# Altium schematic symbol library LimeMicroAltiumLib.SchLib: 659 symbols (part 14 of 22)
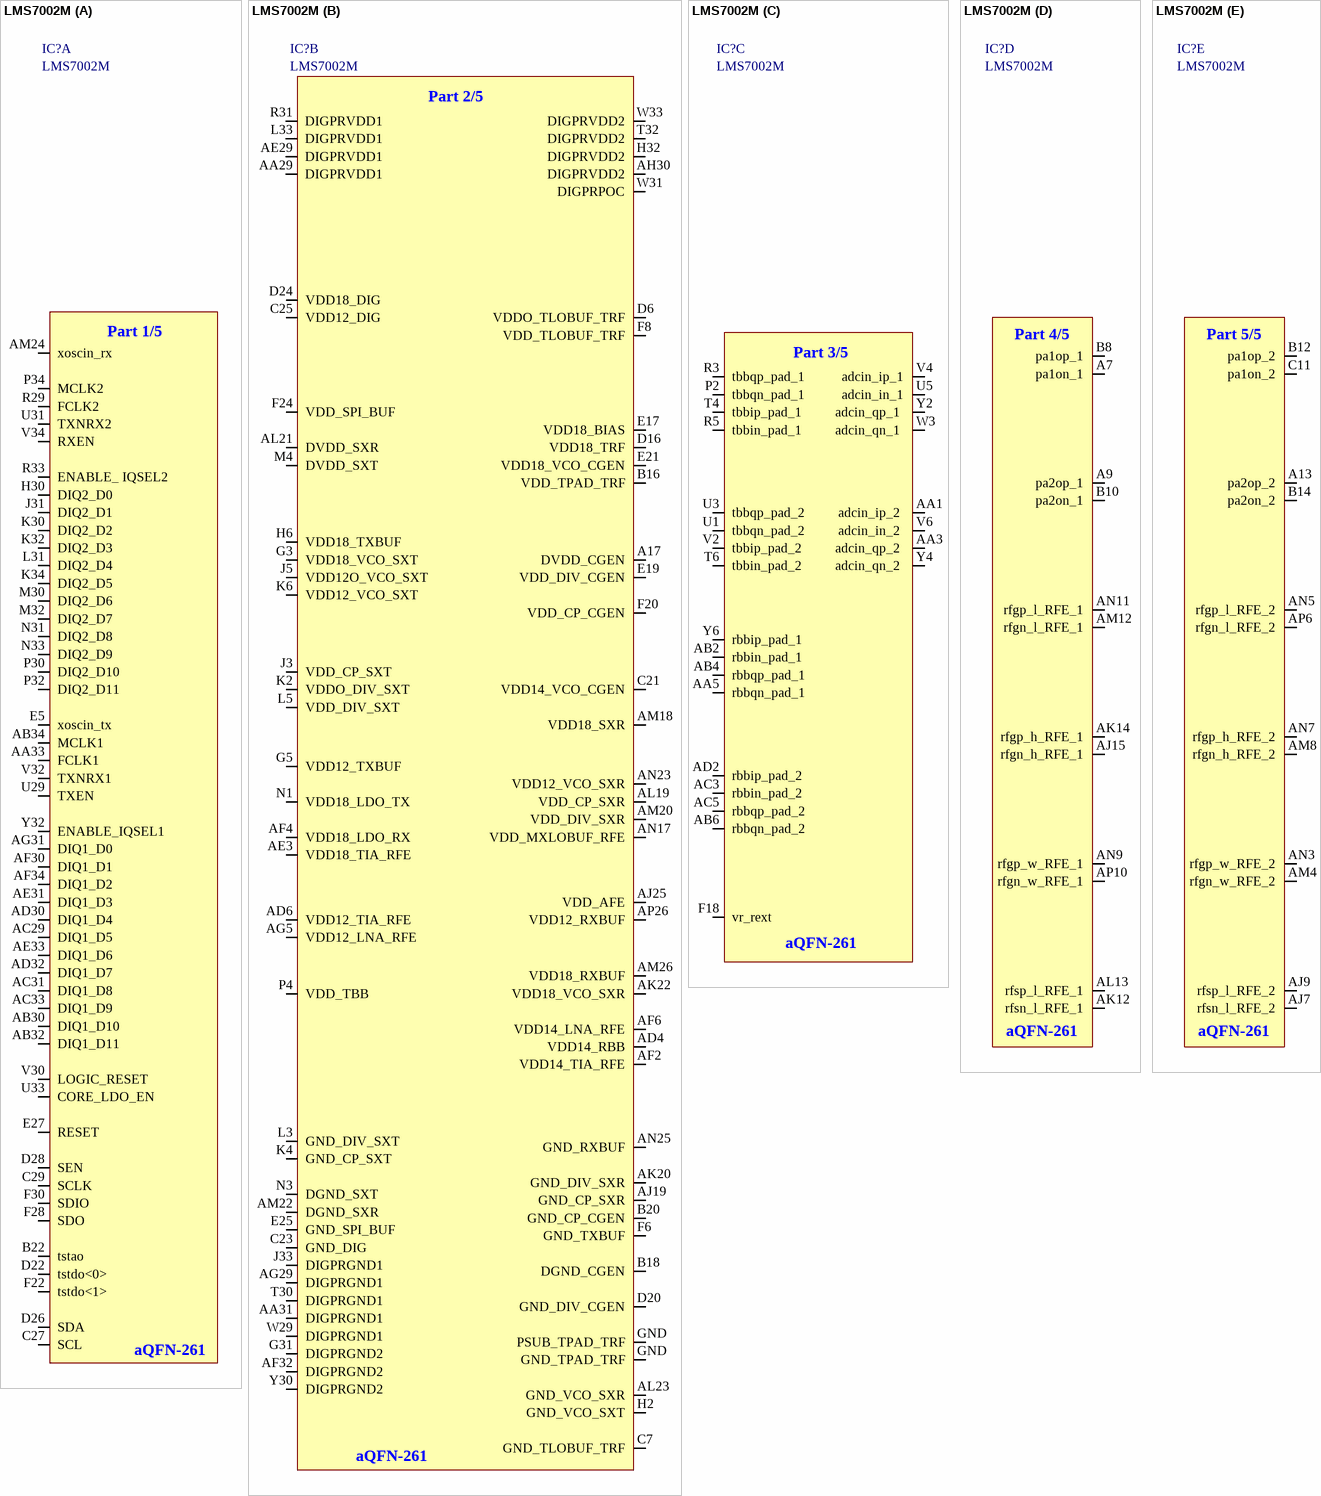
[diagram p91: symbol LMS7002M]

## LMS7002M
designator IC?
footprint LMS7002M
part A pins: AA33 FCLK1, AB30 DIQ1_D10, AB32 DIQ1_D11, AB34 MCLK1, AC29 DIQ1_D5, AC31 DIQ1_D8, AC33 DIQ1_D9, AD30 DIQ1_D4, AD32 DIQ1_D7, AE31 DIQ1_D3, AE33 DIQ1_D6, AF30 DIQ1_D1, AF34 DIQ1_D2, AG31 DIQ1_D0, AM24 xoscin_rx, B22 tstao, C27 SCL, C29 SCLK, D22 tstdo<0>, D26 SDA, D28 SEN, E5 xoscin_tx, E27 RESET, F22 tstdo<1>, F28 SDO, F30 SDIO, H30 DIQ2_D0, J31 DIQ2_D1, K30 DIQ2_D2, K32 DIQ2_D3, K34 DIQ2_D5, L31 DIQ2_D4, M30 DIQ2_D6, M32 DIQ2_D7, N31 DIQ2_D8, N33 DIQ2_D9, P30 DIQ2_D10, P32 DIQ2_D11, P34 MCLK2, R29 FCLK2, R33 ENABLE_ IQSEL2, U29 TXEN, U31 TXNRX2, U33 CORE_LDO_EN, V30 LOGIC_RESET, V32 TXNRX1, V34 RXEN, Y32 ENABLE_IQSEL1
part B pins: A17 DVDD_CGEN, AA29 DIGPRVDD1, AA31 DIGPRGND1, AD4 VDD14_RBB, AD6 VDD12_TIA_RFE, AE3 VDD18_TIA_RFE, AE29 DIGPRVDD1, AF2 VDD14_TIA_RFE, AF4 VDD18_LDO_RX, AF6 VDD14_LNA_RFE, AF32 DIGPRGND2, AG5 VDD12_LNA_RFE, AG29 DIGPRGND1, AH30 DIGPRVDD2, AJ19 GND_CP_SXR, AJ25 VDD_AFE, AK20 GND_DIV_SXR, AK22 VDD18_VCO_SXR, AL19 VDD_CP_SXR, AL21 DVDD_SXR, AL23 GND_VCO_SXR, AM18 VDD18_SXR, AM20 VDD_DIV_SXR, AM22 DGND_SXR, AM26 VDD18_RXBUF, AN17 VDD_MXLOBUF_RFE, AN23 VDD12_VCO_SXR, AN25 GND_RXBUF, AP26 VDD12_RXBUF, B16 VDD_TPAD_TRF, B18 DGND_CGEN, B20 GND_CP_CGEN, C7 GND_TLOBUF_TRF, C21 VDD14_VCO_CGEN, C23 GND_DIG, C25 VDD12_DIG, D6 VDDO_TLOBUF_TRF, D16 VDD18_TRF, D20 GND_DIV_CGEN, D24 VDD18_DIG, E17 VDD18_BIAS, E19 VDD_DIV_CGEN, E21 VDD18_VCO_CGEN, E25 GND_SPI_BUF, F6 GND_TXBUF, F8 VDD_TLOBUF_TRF, F20 VDD_CP_CGEN, F24 VDD_SPI_BUF, G3 VDD18_VCO_SXT, G5 VDD12_TXBUF, G31 DIGPRGND2, GND PSUB_TPAD_TRF, GND GND_TPAD_TRF, H2 GND_VCO_SXT, H6 VDD18_TXBUF, H32 DIGPRVDD2, J3 VDD_CP_SXT, J5 VDD12O_VCO_SXT, J33 DIGPRGND1, K2 VDDO_DIV_SXT, K4 GND_CP_SXT, K6 VDD12_VCO_SXT, L3 GND_DIV_SXT, L5 VDD_DIV_SXT, L33 DIGPRVDD1, M4 DVDD_SXT, N1 VDD18_LDO_TX, N3 DGND_SXT, P4 VDD_TBB, R31 DIGPRVDD1, T30 DIGPRGND1, T32 DIGPRVDD2, W29 DIGPRGND1, W31 DIGPRPOC, W33 DIGPRVDD2, Y30 DIGPRGND2
part C pins: AA1 adcin_ip_2 , AA3 adcin_qp_2 , AA5 rbbqn_pad_1 , AB2 rbbin_pad_1, AB4 rbbqp_pad_1, AB6 rbbqn_pad_2 , AC3 rbbin_pad_2, AC5 rbbqp_pad_2 , AD2 rbbip_pad_2 , F18 vr_rext, P2 tbbqn_pad_1, R3 tbbqp_pad_1, R5 tbbin_pad_1, T4 tbbip_pad_1, T6 tbbin_pad_2, U1 tbbqn_pad_2, U3 tbbqp_pad_2, U5 adcin_in_1, V2 tbbip_pad_2, V4 adcin_ip_1, V6 adcin_in_2 , W3 adcin_qn_1 , Y2 adcin_qp_1 , Y4 adcin_qn_2 , Y6 rbbip_pad_1 
part D pins: A7 pa1on_1, A9 pa2op_1, AJ15 rfgn_h_RFE_1, AK12 rfsn_l_RFE_1, AK14 rfgp_h_RFE_1, AL13 rfsp_l_RFE_1, AM12 rfgn_l_RFE_1, AN9 rfgp_w_RFE_1, AN11 rfgp_l_RFE_1, AP10 rfgn_w_RFE_1, B8 pa1op_1, B10 pa2on_1
part E pins: A13 pa2op_2, AJ7 rfsn_l_RFE_2, AJ9 rfsp_l_RFE_2, AM4 rfgn_w_RFE_2, AM8 rfgn_h_RFE_2, AN3 rfgp_w_RFE_2, AN5 rfgp_l_RFE_2, AN7 rfgp_h_RFE_2, AP6 rfgn_l_RFE_2, B12 pa1op_2, B14 pa2on_2, C11 pa1on_2
part A text: Part 1/5; aQFN-261
part B text: Part 2/5; aQFN-261
part C text: Part 3/5; aQFN-261
part D text: Part 4/5; aQFN-261
part E text: Part 5/5; aQFN-261

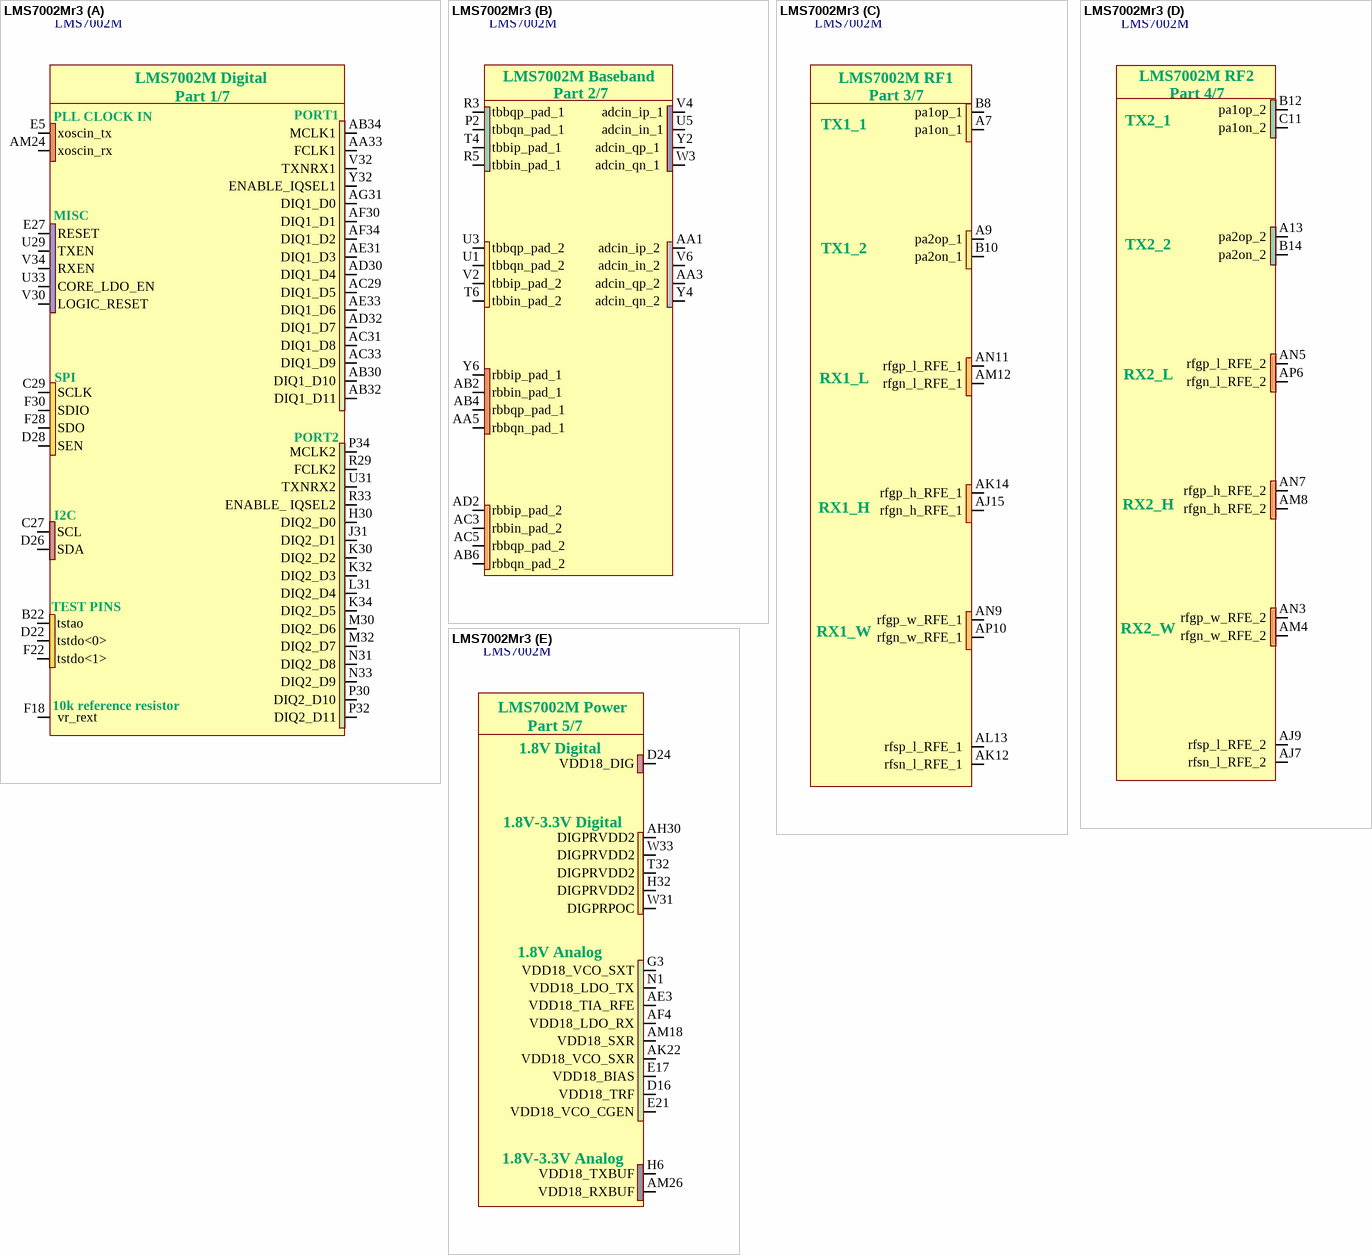
[diagram p56: symbol LMS7002Mr3]

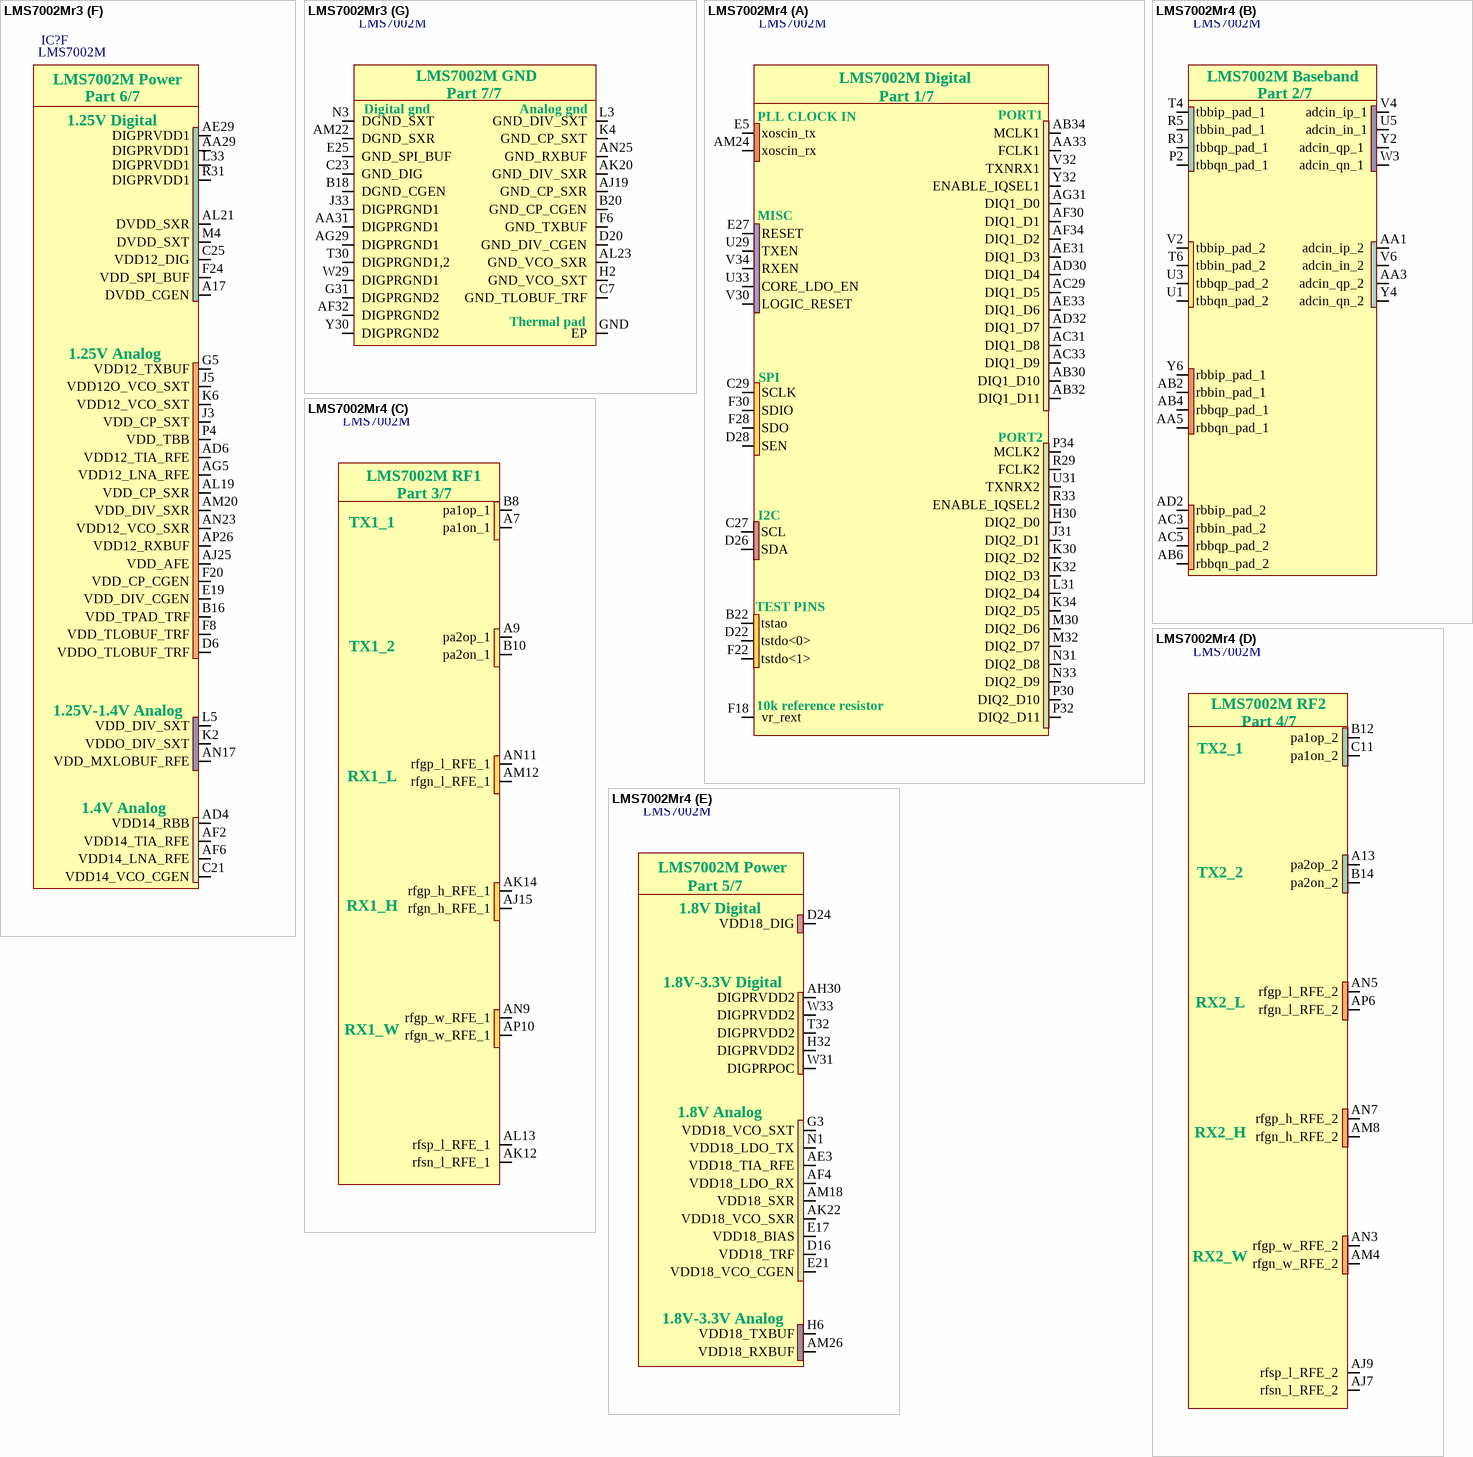
[diagram p57: symbols LMS7002Mr3 to LMS7002Mr4]

## LMS7002Mr3
designator IC?, comment LMS7002M
Schematic symbol revision 3. Default footprint - 0.31mm pad; Manufacturer: Lime Microsystems; Part Description: IC FPRF Transceiver LMS7002M; 261 pin aQFN; Supplier 1: Lime Microsystems; Supplier Part Number 1: LMS7002M; Manufacturer Part Number 1: LMS7002M
footprint LMS7002M_v3 (LMS7002 without AM2 pad (internally unconnected). Pad size reduced to 0.31mm from 0.35)
part A pins: AA33 FCLK1, AB30 DIQ1_D10, AB32 DIQ1_D11, AB34 MCLK1, AC29 DIQ1_D5, AC31 DIQ1_D8, AC33 DIQ1_D9, AD30 DIQ1_D4, AD32 DIQ1_D7, AE31 DIQ1_D3, AE33 DIQ1_D6, AF30 DIQ1_D1, AF34 DIQ1_D2, AG31 DIQ1_D0, AM24 xoscin_rx, B22 tstao, C27 SCL, C29 SCLK, D22 tstdo<0>, D26 SDA, D28 SEN, E5 xoscin_tx, E27 RESET, F18 vr_rext, F22 tstdo<1>, F28 SDO, F30 SDIO, H30 DIQ2_D0, J31 DIQ2_D1, K30 DIQ2_D2, K32 DIQ2_D3, K34 DIQ2_D5, L31 DIQ2_D4, M30 DIQ2_D6, M32 DIQ2_D7, N31 DIQ2_D8, N33 DIQ2_D9, P30 DIQ2_D10, P32 DIQ2_D11, P34 MCLK2, R29 FCLK2, R33 ENABLE_ IQSEL2, U29 TXEN, U31 TXNRX2, U33 CORE_LDO_EN, V30 LOGIC_RESET, V32 TXNRX1, V34 RXEN, Y32 ENABLE_IQSEL1
part B pins: AA1 adcin_ip_2 , AA3 adcin_qp_2 , AA5 rbbqn_pad_1 , AB2 rbbin_pad_1, AB4 rbbqp_pad_1, AB6 rbbqn_pad_2 , AC3 rbbin_pad_2, AC5 rbbqp_pad_2 , AD2 rbbip_pad_2 , P2 tbbqn_pad_1, R3 tbbqp_pad_1, R5 tbbin_pad_1, T4 tbbip_pad_1, T6 tbbin_pad_2, U1 tbbqn_pad_2, U3 tbbqp_pad_2, U5 adcin_in_1, V2 tbbip_pad_2, V4 adcin_ip_1, V6 adcin_in_2 , W3 adcin_qn_1 , Y2 adcin_qp_1 , Y4 adcin_qn_2 , Y6 rbbip_pad_1 
part C pins: A7 pa1on_1, A9 pa2op_1, AJ15 rfgn_h_RFE_1, AK12 rfsn_l_RFE_1, AK14 rfgp_h_RFE_1, AL13 rfsp_l_RFE_1, AM12 rfgn_l_RFE_1, AN9 rfgp_w_RFE_1, AN11 rfgp_l_RFE_1, AP10 rfgn_w_RFE_1, B8 pa1op_1, B10 pa2on_1
part D pins: A13 pa2op_2, AJ7 rfsn_l_RFE_2, AJ9 rfsp_l_RFE_2, AM4 rfgn_w_RFE_2, AM8 rfgn_h_RFE_2, AN3 rfgp_w_RFE_2, AN5 rfgp_l_RFE_2, AN7 rfgp_h_RFE_2, AP6 rfgn_l_RFE_2, B12 pa1op_2, B14 pa2on_2, C11 pa1on_2
part E pins: AE3 VDD18_TIA_RFE (power), AF4 VDD18_LDO_RX (power), AH30 DIGPRVDD2 (power), AK22 VDD18_VCO_SXR (power), AM18 VDD18_SXR (power), AM26 VDD18_RXBUF (power), D16 VDD18_TRF (power), D24 VDD18_DIG (power), E17 VDD18_BIAS (power), E21 VDD18_VCO_CGEN (power), G3 VDD18_VCO_SXT (power), H6 VDD18_TXBUF (power), H32 DIGPRVDD2 (power), N1 VDD18_LDO_TX (power), T32 DIGPRVDD2 (power), W31 DIGPRPOC (power), W33 DIGPRVDD2 (power)
part F pins: A17 DVDD_CGEN (power), AA29 DIGPRVDD1 (power), AD4 VDD14_RBB (power), AD6 VDD12_TIA_RFE (power), AE29 DIGPRVDD1 (power), AF2 VDD14_TIA_RFE (power), AF6 VDD14_LNA_RFE (power), AG5 VDD12_LNA_RFE (power), AJ25 VDD_AFE (power), AL19 VDD_CP_SXR (power), AL21 DVDD_SXR (power), AM20 VDD_DIV_SXR (power), AN17 VDD_MXLOBUF_RFE (power), AN23 VDD12_VCO_SXR (power), AP26 VDD12_RXBUF (power), B16 VDD_TPAD_TRF (power), C21 VDD14_VCO_CGEN (power), C25 VDD12_DIG (power), D6 VDDO_TLOBUF_TRF (power), E19 VDD_DIV_CGEN (power), F8 VDD_TLOBUF_TRF (power), F20 VDD_CP_CGEN (power), F24 VDD_SPI_BUF (power), G5 VDD12_TXBUF (power), J3 VDD_CP_SXT (power), J5 VDD12O_VCO_SXT (power), K2 VDDO_DIV_SXT (power), K6 VDD12_VCO_SXT (power), L5 VDD_DIV_SXT (power), L33 DIGPRVDD1 (power), M4 DVDD_SXT (power), P4 VDD_TBB (power), R31 DIGPRVDD1 (power)
part G pins: AA31 DIGPRGND1, AF32 DIGPRGND2, AG29 DIGPRGND1, AJ19 GND_CP_SXR, AK20 GND_DIV_SXR, AL23 GND_VCO_SXR, AM22 DGND_SXR, AN25 GND_RXBUF, B18 DGND_CGEN, B20 GND_CP_CGEN, C7 GND_TLOBUF_TRF, C23 GND_DIG, D20 GND_DIV_CGEN, E25 GND_SPI_BUF, F6 GND_TXBUF, G31 DIGPRGND2, GND EP, H2 GND_VCO_SXT, J33 DIGPRGND1, K4 GND_CP_SXT, L3 GND_DIV_SXT, N3 DGND_SXT, T30 DIGPRGND1,2, W29 DIGPRGND1, Y30 DIGPRGND2
part A text: LMS7002M Digital; Part 1/7; PLL CLOCK IN; PORT1; MISC; SPI; PORT2; I2C; TEST PINS; 10k reference resistor
part B text: LMS7002M Baseband; Part 2/7
part C text: LMS7002M RF1; Part 3/7; TX1_1; TX1_2; RX1_L; RX1_H; RX1_W
part D text: LMS7002M RF2; Part 4/7; TX2_1; TX2_2; RX2_L; RX2_H; RX2_W
part E text: LMS7002M Power; Part 5/7; 1.8V Digital; 1.8V-3.3V Digital; 1.8V Analog; 1.8V-3.3V Analog
part F text: LMS7002M Power; Part 6/7; 1.25V Digital; 1.25V Analog; 1.25V-1.4V Analog; 1.4V Analog
part G text: LMS7002M GND; Part 7/7; Digital gnd; Analog gnd; Thermal pad

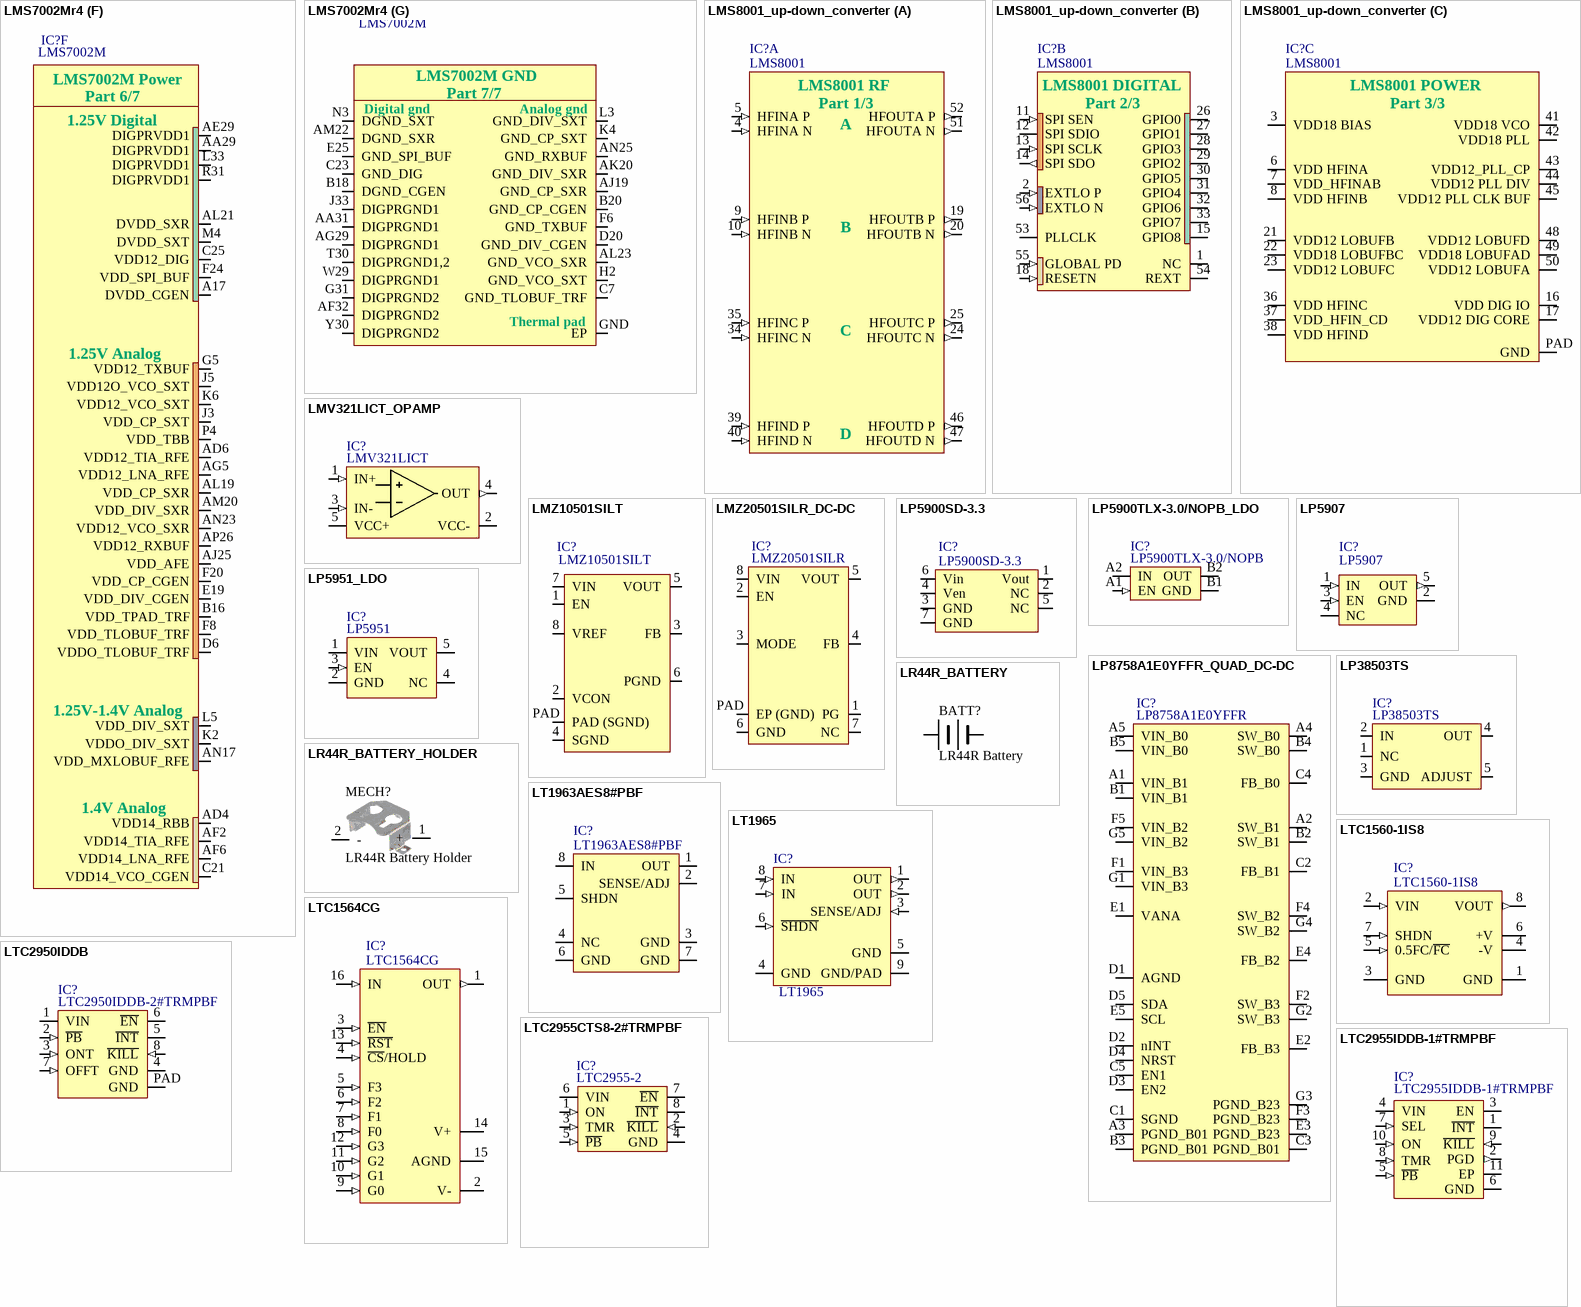
[diagram p58: symbols LMS7002Mr4 to LTC2955IDDB-1#TRMPBF]

## LMS7002Mr4
designator IC?, comment LMS7002M
Schematic symbol revision 4. Default footprint - 0.31mm pad; Manufacturer: Lime Microsystems; Part Description: IC FPRF Transceiver LMS7002M; 261 pin aQFN; Supplier 1: Lime Microsystems; Supplier Part Number 1: LMS7002M; Manufacturer Part Number 1: LMS7002M
footprint LMS7002M_v3 (LMS7002 without AM2 pad (internally unconnected). Pad size reduced to 0.31mm from 0.35)
part A pins: AA33 FCLK1, AB30 DIQ1_D10, AB32 DIQ1_D11, AB34 MCLK1, AC29 DIQ1_D5, AC31 DIQ1_D8, AC33 DIQ1_D9, AD30 DIQ1_D4, AD32 DIQ1_D7, AE31 DIQ1_D3, AE33 DIQ1_D6, AF30 DIQ1_D1, AF34 DIQ1_D2, AG31 DIQ1_D0, AM24 xoscin_rx, B22 tstao, C27 SCL, C29 SCLK, D22 tstdo<0>, D26 SDA, D28 SEN, E5 xoscin_tx, E27 RESET, F18 vr_rext, F22 tstdo<1>, F28 SDO, F30 SDIO, H30 DIQ2_D0, J31 DIQ2_D1, K30 DIQ2_D2, K32 DIQ2_D3, K34 DIQ2_D5, L31 DIQ2_D4, M30 DIQ2_D6, M32 DIQ2_D7, N31 DIQ2_D8, N33 DIQ2_D9, P30 DIQ2_D10, P32 DIQ2_D11, P34 MCLK2, R29 FCLK2, R33 ENABLE_IQSEL2, U29 TXEN, U31 TXNRX2, U33 CORE_LDO_EN, V30 LOGIC_RESET, V32 TXNRX1, V34 RXEN, Y32 ENABLE_IQSEL1
part B pins: AA1 adcin_ip_2 , AA3 adcin_qp_2 , AA5 rbbqn_pad_1 , AB2 rbbin_pad_1, AB4 rbbqp_pad_1, AB6 rbbqn_pad_2 , AC3 rbbin_pad_2, AC5 rbbqp_pad_2 , AD2 rbbip_pad_2 , P2 tbbqn_pad_1, R3 tbbqp_pad_1, R5 tbbin_pad_1, T4 tbbip_pad_1, T6 tbbin_pad_2, U1 tbbqn_pad_2, U3 tbbqp_pad_2, U5 adcin_in_1, V2 tbbip_pad_2, V4 adcin_ip_1, V6 adcin_in_2 , W3 adcin_qn_1 , Y2 adcin_qp_1 , Y4 adcin_qn_2 , Y6 rbbip_pad_1 
part C pins: A7 pa1on_1, A9 pa2op_1, AJ15 rfgn_h_RFE_1, AK12 rfsn_l_RFE_1, AK14 rfgp_h_RFE_1, AL13 rfsp_l_RFE_1, AM12 rfgn_l_RFE_1, AN9 rfgp_w_RFE_1, AN11 rfgp_l_RFE_1, AP10 rfgn_w_RFE_1, B8 pa1op_1, B10 pa2on_1
part D pins: A13 pa2op_2, AJ7 rfsn_l_RFE_2, AJ9 rfsp_l_RFE_2, AM4 rfgn_w_RFE_2, AM8 rfgn_h_RFE_2, AN3 rfgp_w_RFE_2, AN5 rfgp_l_RFE_2, AN7 rfgp_h_RFE_2, AP6 rfgn_l_RFE_2, B12 pa1op_2, B14 pa2on_2, C11 pa1on_2
part E pins: AE3 VDD18_TIA_RFE (power), AF4 VDD18_LDO_RX (power), AH30 DIGPRVDD2 (power), AK22 VDD18_VCO_SXR (power), AM18 VDD18_SXR (power), AM26 VDD18_RXBUF (power), D16 VDD18_TRF (power), D24 VDD18_DIG (power), E17 VDD18_BIAS (power), E21 VDD18_VCO_CGEN (power), G3 VDD18_VCO_SXT (power), H6 VDD18_TXBUF (power), H32 DIGPRVDD2 (power), N1 VDD18_LDO_TX (power), T32 DIGPRVDD2 (power), W31 DIGPRPOC (power), W33 DIGPRVDD2 (power)
part F pins: A17 DVDD_CGEN (power), AA29 DIGPRVDD1 (power), AD4 VDD14_RBB (power), AD6 VDD12_TIA_RFE (power), AE29 DIGPRVDD1 (power), AF2 VDD14_TIA_RFE (power), AF6 VDD14_LNA_RFE (power), AG5 VDD12_LNA_RFE (power), AJ25 VDD_AFE (power), AL19 VDD_CP_SXR (power), AL21 DVDD_SXR (power), AM20 VDD_DIV_SXR (power), AN17 VDD_MXLOBUF_RFE (power), AN23 VDD12_VCO_SXR (power), AP26 VDD12_RXBUF (power), B16 VDD_TPAD_TRF (power), C21 VDD14_VCO_CGEN (power), C25 VDD12_DIG (power), D6 VDDO_TLOBUF_TRF (power), E19 VDD_DIV_CGEN (power), F8 VDD_TLOBUF_TRF (power), F20 VDD_CP_CGEN (power), F24 VDD_SPI_BUF (power), G5 VDD12_TXBUF (power), J3 VDD_CP_SXT (power), J5 VDD12O_VCO_SXT (power), K2 VDDO_DIV_SXT (power), K6 VDD12_VCO_SXT (power), L5 VDD_DIV_SXT (power), L33 DIGPRVDD1 (power), M4 DVDD_SXT (power), P4 VDD_TBB (power), R31 DIGPRVDD1 (power)
part G pins: AA31 DIGPRGND1, AF32 DIGPRGND2, AG29 DIGPRGND1, AJ19 GND_CP_SXR, AK20 GND_DIV_SXR, AL23 GND_VCO_SXR, AM22 DGND_SXR, AN25 GND_RXBUF, B18 DGND_CGEN, B20 GND_CP_CGEN, C7 GND_TLOBUF_TRF, C23 GND_DIG, D20 GND_DIV_CGEN, E25 GND_SPI_BUF, F6 GND_TXBUF, G31 DIGPRGND2, GND EP, H2 GND_VCO_SXT, J33 DIGPRGND1, K4 GND_CP_SXT, L3 GND_DIV_SXT, N3 DGND_SXT, T30 DIGPRGND1,2, W29 DIGPRGND1, Y30 DIGPRGND2
part A text: LMS7002M Digital; Part 1/7; PLL CLOCK IN; PORT1; MISC; SPI; PORT2; I2C; TEST PINS; 10k reference resistor
part B text: LMS7002M Baseband; Part 2/7
part C text: LMS7002M RF1; Part 3/7; TX1_1; TX1_2; RX1_L; RX1_H; RX1_W
part D text: LMS7002M RF2; Part 4/7; TX2_1; TX2_2; RX2_L; RX2_H; RX2_W
part E text: LMS7002M Power; Part 5/7; 1.8V Digital; 1.8V-3.3V Digital; 1.8V Analog; 1.8V-3.3V Analog
part F text: LMS7002M Power; Part 6/7; 1.25V Digital; 1.25V Analog; 1.25V-1.4V Analog; 1.4V Analog
part G text: LMS7002M GND; Part 7/7; Digital gnd; Analog gnd; Thermal pad

## LMS8001_up-down_converter
designator IC?, comment LMS8001
Part Description: Single chip up/down RF frequency shifter; Manufacturer: Lime Microsystems; Supplier 1: Lime Microsystems; Manufacturer Part Number 1: LMS8001; Supplier Part Number 8: LMS8001
footprint LMS8001_up-down_converter_QFN56
part A pins: 4 HFINA N (in), 5 HFINA P (in), 9 HFINB P (in), 10 HFINB N (in), 19 HFOUTB P (out), 20 HFOUTB N (out), 24 HFOUTC N (out), 25 HFOUTC P (out), 34 HFINC N (in), 35 HFINC P (in), 39 HFIND P (in), 40 HFIND N (in), 46 HFOUTD P (out), 47 HFOUTD N (out), 51 HFOUTA N (out), 52 HFOUTA P (out)
part B pins: 1 NC, 2 EXTLO P (in), 11 SPI SEN (in), 12 SPI SDIO (io), 13 SPI SCLK (in), 14 SPI SDO (out), 15 GPIO8 (io), 18 RESETN (in), 26 GPIO0 (io), 27 GPIO1 (io), 28 GPIO3 (io), 29 GPIO2 (io), 30 GPIO5 (io), 31 GPIO4 (io), 32 GPIO6 (io), 33 GPIO7 (io), 53 PLLCLK, 54 REXT, 55 GLOBAL PD (in), 56 EXTLO N (in)
part C pins: 3 VDD18 BIAS, 6 VDD HFINA, 7 VDD_HFINAB, 8 VDD HFINB, 16 VDD DIG IO, 17 VDD12 DIG CORE, 21 VDD12 LOBUFB, 22 VDD18 LOBUFBC, 23 VDD12 LOBUFC, 36 VDD HFINC, 37 VDD_HFIN_CD, 38 VDD HFIND, 41 VDD18 VCO, 42 VDD18 PLL, 43 VDD12_PLL_CP, 44 VDD12 PLL DIV, 45 VDD12 PLL CLK BUF, 48 VDD12 LOBUFD, 49 VDD18 LOBUFAD, 50 VDD12 LOBUFA, PAD GND
part A text: LMS8001 RF; Part 1/3; A; B; C; D
part B text: LMS8001 DIGITAL; Part 2/3
part C text: LMS8001 POWER; Part 3/3

## LMV321LICT_OPAMP
designator IC?, comment LMV321LICT
Part Description: General Purpose Amplifier 1 Circuit Rail-to-Rail SC-70-5; Manufacturer: STMicroelectronics; Min Supply Voltage: 2.7V; Max Supply Voltage: 5.5V; Voltage Gain: 100dB; Slew Rate: 0.7V/µs; Unity Gain Bandwidth Product: 1.3MHz; Common Mode Rejection Ratio: 72dB; Number of Channels: 1; Output Current: 46mA; Nominal Supply Current: 220uA; Input Bias Current: 27nA; Input Offset Voltage (Vos): 1mV; Operating Supply Current: 130uA; Output Current per Channel: 70mA; Amplifier Type: GENERAL PURPOSE; Supplier 1: Digi-Key; Supplier Part Number 1: 497-13050-1-ND; Manufacturer Part Number 1: LMV321LICT; Stock 1: 43144; Pricing 1: 1=0,42000, 10=0,36300, 25=0,33880, 100=0,25160, 250=0,21292, 500=0,20324, 1000=0,18260 (USD); RoHS: Yes; Mount: Surface Mount; Case/Package: SC; Number of Pins: 5; Contact Plating: Tin; Min Operating Temperature: -40°C; Max Operating Temperature: 125°C; Package Quantity: 1; Packaging: Tape and Reel; Number of Circuits: 1; Gain Bandwidth Product: 1.3MHz; Number of Elements: 1; Series: -; Supply Current: 220uA; Input Offset Voltage-Max: 1mV; Slew Rate-Nom: 0.7V/µs; Radiation Hardening: No; Lead Free: Lead Free; RoHS Compliant: Yes; ComponentLink1URL: https://datasheet.ciiva.com/13063/dm00052423-100852-13063497.pdf?src-supplier=Mouser; ComponentLink1Description: https://datasheet.ciiva.com/13063/dm00052423-100852-13063497.pdf?src-supplier=Mouser; ComponentLink2URL: https://datasheet.ciiva.com/41459/001184777-da-01-en-ic-op-amp-sgl-r-r-lmv321lict-sc-70-5-stm-41459586.pdf?src-supplier=Conrad; ComponentLink2Description: https://datasheet.ciiva.com/41459/001184777-da-01-en-ic-op-amp-sgl-r-r-lmv321lict-sc-70-5-stm-41459586.pdf?src-supplier=Conrad; ComponentLink3URL: https://datasheet.ciiva.com/6629/dm00052423-6629957.pdf?src-supplier=Digi-Key; ComponentLink3Description: https://datasheet.ciiva.com/6629/dm00052423-6629957.pdf?src-supplier=Digi-Key; ComponentLink4URL: https://datasheet.ciiva.com/6629/dm00052423-6629958.pdf?src-supplier=Digi-Key; ComponentLink4Description: https://datasheet.ciiva.com/6629/dm00052423-6629958.pdf?src-supplier=Digi-Key; ComponentLink5URL: https://datasheet.ciiva.com/16394/dm00052423-16394346.pdf?src-supplier=Future+Electronics; ComponentLink5Description: https://datasheet.ciiva.com/16394/dm00052423-16394346.pdf?src-supplier=Future+Electronics; ComponentLink6URL: https://datasheet.ciiva.com/2966/dm00052423-2966011.pdf?src-supplier=Avnet; ComponentLink6Description: https://datasheet.ciiva.com/2966/dm00052423-2966011.pdf?src-supplier=Avnet
footprint SC-70-5_LMV321LICT_OPAMP (Footprint not found)
pins: 1 IN+ (in), 2 VCC-, 3 IN- (in), 4 OUT (out), 5 VCC+ (power)

## LMZ10501SILT
designator IC?
Manufacturer: Texas Instruments; Current - Output (Max): 1A; Voltage - Output 1: 0.6 ~ 3.6 V; Voltage - Input (Min): 2.7V; Number of Outputs: 1; Efficiency: 95%; Voltage - Input (Max): 5.5V; Supplier 1: Digi-Key; Package / Case: 8-LLP; Voltage - Output 2: -; Voltage - Output 3: -; Operating Temperature: -40°C ~ 125°C; Mounting Type: Surface Mount; Applications: ITE (Commercial); Size / Dimension: 0.12" L x 0.10" W x 0.06" H (3.0mm x 2.6mm x 1.5mm); Type: Non-Isolated PoL Module; Power (Watts) - Max: -; Voltage - Isolation: -; Features: OCP, OTP, SCP, UVLO; RoHS: RoHS Compliant; Packaging: Digi-Reel®; Power (Watts) - Manufacture Series: -; Category: Power Supplies - Board Mount; Manufacturer Part Number 1: LMZ10501SILT; Supplier Part Number 1: 296-37266-6-ND
footprint RAKON_RTX5032A (RAKON RTX5032A 40MHz Filter enabled, with VC, 10pin 5mm x 3.2mm)
pins: 1 EN, 2 VCON, 3 FB, 4 SGND, 5 VOUT, 6 PGND, 7 VIN, 8 VREF, PAD PAD (SGND)

## LMZ20501SILR_DC-DC
designator IC?, comment LMZ20501SILR
Manufacturer: Texas Instruments; Part Description: Non-Isolated PoL Module DC DC Converter 1 Output 0.8 ~ 3.6V 1A 2.7V - 5.5V Input; Number of Outputs: 1; Min Input Voltage: 2.7V; Max Input Voltage: 5.5V; Voltage - Output 1: 3.6V; Max Output Current: 1A; Efficiency: 93%; Max Power Dissipation: 4W; Quiescent Current: 72nA; Switching Frequency: 3MHz; Output Type: Adjustable; Supplier 1: Digi-Key; Supplier Part Number 1: 296-40328-1-ND; Manufacturer Part Number 1: LMZ20501SILR; Stock 1: 8106; Pricing 1: 1=4,48000, 10=4,02000, 25=3,80040, 100=3,29350, 250=3,12464, 500=2,80372, 1000=2,54942 (USD); RoHS: Yes; Mount: Surface Mount; Case/Package: SMD/SMT; Number of Pins: 8; Min Operating Temperature: -40°C; Max Operating Temperature: 125°C; Packaging: Tape and Reel; Output Voltage: 3.6V; Package Quantity: 3000; Features: UVLO,OCP,OTP,SCP; Operating Supply Voltage: 5.5V; Length: 0.14inch; Width: 0.14inch; Height: 0.07inch; Lead Free: Lead Free; RoHS Compliant: Yes; ComponentLink1URL: http://www.ti.com/lit/pdf/snaa214?src-supplier=Digi-Key; ComponentLink1Description: http://www.ti.com/lit/pdf/snaa214?src-supplier=Digi-Key; ComponentLink2URL: http://www.ti.com/lit/ds/symlink/lmz20501.pdf?src-supplier=Digi-Key; ComponentLink2Description: http://www.ti.com/lit/ds/symlink/lmz20501.pdf?src-supplier=Digi-Key; ComponentLink3URL: http://www.ti.com/lit/gpn/lmz20501?src-supplier=Mouser; ComponentLink3Description: http://www.ti.com/lit/gpn/lmz20501?src-supplier=Mouser; ComponentLink4URL: http://www.ti.com/general/docs/lit/getliterature.tsp?genericPartNumber=LMZ20501&&fileType=pdf&src-supplier=Avnet; ComponentLink4Description: http://www.ti.com/general/docs/lit/getliterature.tsp?genericPartNumber=LMZ20501&&fileType=pdf&src-supplier=Avnet
footprint LMZ20501SILR_DC-DC_8-SMD
pins: 1 PG (out), 2 EN (in), 3 MODE (in), 4 FB (in), 5 VOUT (out), 6 GND (power), 7 NC, 8 VIN (power), PAD EP (GND)

## LP5900SD-3.3
designator IC?
Manufacturer Part Number: LP5900SD-3.3/NOPB; Voltage - Output: 3.3V; Voltage - Dropout (Typical): 0.08V @ 150mA; Voltage - Input: Up to 5.5V; Supplier 1: Digi-Key; Supplier Part Number 1: LP5900SD-3.3/NOPBTR-ND; Package / Case: 6-WDFN Exposed Pad
pins: 1 Vout, 2 NC, 3 GND, 4 Ven, 5 NC, 6 Vin, 7 GND

## LP5900TLX-3.0/NOPB_LDO
designator IC?, comment LP5900TLX-3.0/NOPB
Part Description: Linear Voltage Regulator IC Positive Fixed 1 Output 150mA 4-DSBGA (1x1); Manufacturer: TI National Semiconductor; Dropout Voltage: 80mV; Number of Outputs: 1; Min Input Voltage: 2.5V; Output Voltage: 3V; Output Current: 150mA; Max Input Voltage: 5.5V; Polarity: Positive; Quiescent Current: 50uA; Output Voltage Accuracy: 2%; Output Type: Fixed; Supplier 1: Digi-Key; Supplier Part Number 1: 296-35210-1-ND; Manufacturer Part Number 1: LP5900TLX-3.0/NOPB; Stock 1: 6115; Pricing 1: 1=0,96000, 10=0,84700, 25=0,79520, 100=0,64900, 250=0,60284, 500=0,51304, 1000=0,41043 (USD); RoHS: Yes; Mount: Surface Mount; Number of Pins: 4; Contact Plating: Copper,Tin,Silver; Min Operating Temperature: -40°C; Max Operating Temperature: 125°C; Packaging: Tape and Reel; Max Output Current: 150mA; Package Quantity: 3000; Number of Regulators: 1; Accuracy: 2%; Radiation Hardening: No; Lead Free: Lead Free; RoHS Compliant: Yes; ComponentLink1URL: https://datasheet.ciiva.com/6598/lp5900-6598126.pdf?src-supplier=Digi-Key; ComponentLink1Description: https://datasheet.ciiva.com/6598/lp5900-6598126.pdf?src-supplier=Digi-Key; ComponentLink2URL: https://datasheet.ciiva.com/6598/lp5900-6598125.pdf?src-supplier=Digi-Key; ComponentLink2Description: https://datasheet.ciiva.com/6598/lp5900-6598125.pdf?src-supplier=Digi-Key; ComponentLink3URL: https://datasheet.ciiva.com/3223/lp5900-3223994.pdf?src-supplier=Avnet; ComponentLink3Description: https://datasheet.ciiva.com/3223/lp5900-3223994.pdf?src-supplier=Avnet
footprint LP5900TLX-3.0/NOPB_LDO_4DSBGA
pins: A1 EN (in), A2 IN (power), B1 GND (power), B2 OUT (power)

## LP5907
designator IC?
Manufacturer: Texas Instruments; Manufacturer Part Number 1: LP5907QMFX-3.0Q1; Part Description: Linear Voltage Regulator IC Positive Fixed 1 Output  250mA SOT-23-5; Number of Outputs: 1; Min Input Voltage: 2.2V; Max Input Voltage: 5.5V; Max Output Current: 250mA; Output Voltage: 3V; Dropout Voltage: 50mV; Polarity: Positive; Quiescent Current: 425uA; Accuracy: 2%; Output Type: Fixed; Supplier 1: Digi-Key; Stock 1: 90911; Pricing 1: 1 = 0,65000, 10 = 0,56000, 100 = 0,41820, 500 = 0,32858, 1000 = 0,25390 (USD); RoHS: Yes; Mount: Surface Mount; Case/Package: SOT-23-5; Min Operating Temperature: -40°C; Max Operating Temperature: 125°C; Packaging: Tape and Reel; Output Current: 250mA; Number of Regulators: 1; Radiation Hardening: No; Lead Free: Lead Free; ComponentLink1URL: https://datasheet.ciiva.com/48677/lp5907-q1-48677562.pdf?src-supplier=Avnet; ComponentLink1Description: https://datasheet.ciiva.com/48677/lp5907-q1-48677562.pdf?src-supplier=Avnet; Supplier Part Number 1: 296-40364-1-ND
footprint SOT23-5
pins: 1 IN (in), 2 GND, 3 EN (in), 4 NC, 5 OUT (out)

## LP5951_LDO
designator IC?, comment LP5951
Part Description: Linear Voltage Regulator IC Output 150mA SOT-23-5; Manufacturer: TI National Semiconductor; Manufacturer Part Number 1: LP5951MF-3.0/NOPB; Max Output Current: 150mA; Output Voltage: 3V; Number of Outputs: 1; Min Input Voltage: 1.8V; Max Input Voltage: 5.5V; Dropout Voltage: 200mV; Min Output Voltage: 1.3V; Max Output Voltage: 3.7V; Polarity: Positive; Quiescent Current: 55uA; Accuracy: 2%; Output Type: Fixed,Adjustable; Supplier 1: Digi-Key; Supplier Part Number 1: LP5951MF-3.0/NOPBCT-ND; Stock 1: 8756; Pricing 1: 1=0,80000, 10=0,70000, 25=0,65720, 100=0,53640, 250=0,49820, 500=0,42400 (USD); RoHS: Yes; Mount: Surface Mount; Case/Package: SOT-23; Number of Pins: 5; Min Operating Temperature: -40°C; Max Operating Temperature: 125°C; Package Quantity: 1000; Output Current: 150mA; Packaging: Tape and Reel; Nominal Output Voltage: 3V; Max Supply Voltage: 5.5V; Min Supply Voltage: 1.8V; Termination: SMD/SMT; Output Voltage Accuracy: 2%; Length: 2.92mm; Width: 1.6mm; Height: 1.02mm; Radiation Hardening: No; REACH SVHC: No SVHC; Lead Free: Lead Free; RoHS Compliant: Yes; ComponentLink1URL: https://datasheet.ciiva.com/15111/getdatasheetpartid-86470-15111508.pdf?src-supplier=Verical; ComponentLink1Description: https://datasheet.ciiva.com/15111/getdatasheetpartid-86470-15111508.pdf?src-supplier=Verical; ComponentLink2URL: https://datasheet.ciiva.com/6598/lp5951-6598089.pdf?src-supplier=Digi-Key; ComponentLink2Description: https://datasheet.ciiva.com/6598/lp5951-6598089.pdf?src-supplier=Digi-Key; ComponentLink3URL: https://datasheet.ciiva.com/6598/lp5951-6598090.pdf?src-supplier=Digi-Key; ComponentLink3Description: https://datasheet.ciiva.com/6598/lp5951-6598090.pdf?src-supplier=Digi-Key; ComponentLink4URL: https://datasheet.ciiva.com/6598/lp5951-6598091.pdf?src-supplier=Digi-Key; ComponentLink4Description: https://datasheet.ciiva.com/6598/lp5951-6598091.pdf?src-supplier=Digi-Key; ComponentLink5URL: https://datasheet.ciiva.com/48777/1772311-48777743.pdf?src-supplier=Element14; ComponentLink5Description: https://datasheet.ciiva.com/48777/1772311-48777743.pdf?src-supplier=Element14
footprint LP5951MF_SOT23-5
pins: 1 VIN (power), 2 GND, 3 EN (in), 4 NC, 5 VOUT (power)

## LP8758A1E0YFFR_QUAD_DC-DC
designator IC?, comment LP8758A1E0YFFR
Part Description: Buck Switching Regulator IC Positive Programmable 0.5V 4 Output 4A 35-UFBGA, DSBGA; Manufacturer: Texas Instruments; Number of Outputs: 4; Min Input Voltage: 2.5V; Max Input Voltage: 5.5V; Min Output Voltage: 500mV; Max Output Voltage: 3.36V; Output Current: 4A; Switching Frequency: 3MHz; Synchronous Rectifier: Yes; Quiescent Current: 6uA; Output Configuration: Positive; Supplier 1: Digi-Key; Supplier Part Number 1: 296-47808-1-ND; Manufacturer Part Number 1: LP8758A1E0YFFR; Stock 1: 1; Pricing 1: 1=6,12000, 10=5,49500, 25=5,19440, 100=4,50190, 250=4,27104, 500=3,83240, 1000=3,48480 (USD); RoHS: Yes; Mount: Surface Mount; Case/Package: Module; Min Operating Temperature: -40°C; Max Operating Temperature: 85°C; Packaging: Tape and Reel; Lead Free: Lead Free; RoHS Compliant: Yes; ComponentLink1URL: http://www.ti.com/general/docs/suppproductinfo.tsp?distId=10&amp;gotoUrl=http%3A%2F%2Fwww.ti.com%2Flit%2Fgpn%2Flp8758-e0&src-supplier=Digi-Key; ComponentLink1Description: http://www.ti.com/general/docs/suppproductinfo.tsp?distId=10&amp;gotoUrl=http%3A%2F%2Fwww.ti.com%2Flit%2Fgpn%2Flp8758-e0&src-supplier=Digi-Key; ComponentLink2URL: http://www.ti.com/lit/gpn/lp8758-e0?src-supplier=Mouser; ComponentLink2Description: http://www.ti.com/lit/gpn/lp8758-e0?src-supplier=Mouser; ComponentLink3URL: http://www.ti.com/lit/ds/symlink/lp8758-e0.pdf?src-supplier=Digi-Key; ComponentLink3Description: http://www.ti.com/lit/ds/symlink/lp8758-e0.pdf?src-supplier=Digi-Key
footprint LP8758A1E0YFFR_QUAD_DC-DC
pins: A1 VIN_B1, A2 SW_B1, A3 PGND_B01, A4 SW_B0, A5 VIN_B0, B1 VIN_B1, B2 SW_B1, B3 PGND_B01, B4 SW_B0, B5 VIN_B0, C1 SGND, C2 FB_B1, C3 PGND_B01, C4 FB_B0, C5 EN1, D1 AGND, D2 nINT, D3 EN2, D4 NRST, D5 SDA, E1 VANA, E2 FB_B3, E3 PGND_B23, E4 FB_B2, E5 SCL, F1 VIN_B3, F2 SW_B3, F3 PGND_B23, F4 SW_B2, F5 VIN_B2, G1 VIN_B3, G2 SW_B3, G3 PGND_B23, G4 SW_B2, G5 VIN_B2

## LP38503TS
designator IC?
Manufacturer Part Number: LP38503TS-ADJ/NOPB; Manufacturer: Texas Instruments; Regulator Topology: Positive Adjustable; Voltage - Dropout (Typical): 0.42V @ 3A; Number of Regulators: 1; Current - Output: 3A; Voltage - Output: 0.6 V ~ 5 V; Voltage - Input: 2.7 V ~ 5.5 V; Supplier 1: Digi-Key; Category: Integrated Circuits (ICs); RoHS: RoHS Compliant By Exemption; Operating Temperature: -40°C ~ 125°C; Packaging: Tube; Current - Limit (Min): -; Package / Case: TO-263-6, D²Pak (5 Leads + Tab), TO-263BA; Mounting Type: Surface Mount; Supplier Device Package: DDPAK/TO-263-5; Supplier Part Number 1: LP38503TS-ADJ/NOPB-ND
footprint TO-263-5 (D-PAK/TO-263-5; 5 Leads; Body 14.4 (inc. leads) x 10.4 mm (LxW max))
pins: 1 NC, 2 IN, 3 GND, 4 OUT, 5 ADJUST

## LR44R_BATTERY
designator BATT?, comment LR44R Battery  (mechanical)
Part Description: Coin, 11.6mm Alkaline Manganese Dioxide 1.5 V Battery Non-Rechargeable (Primary); Manufacturer: Murata; ComponentLink1URL: http://na.industrial.panasonic.com/sites/default/pidsa/files/crseries_datasheets_merged.pdf; ComponentLink1Description: http://na.industrial.panasonic.com/sites/default/pidsa/files/crseries_datasheets_merged.pdf; Supplier 1: DigiKey; Supplier Part Number 1: 490-LR44R-ND; Manufacturer Part Number 1: LR44R; Stock 1: 1754; Pricing 1: 1=0,71000, 10=0,59200, 50=0,51660, 100=0,48880, 250=0,45272, 500=0,42774, 1000=0,40274, 2500=0,37496, 5000=0,35552 (USD)
pins: NEGATIVE, POSITIVE

## LR44R_BATTERY_HOLDER
designator MECH?, comment LR44R Battery Holder
Part Description: Battery Retainer Coin, 11.6mm 1 Cell SMD (SMT) Tab; Manufacturer: Keystone Electronics; Manufacturer Part Number 1: 2996; Number of Batteries: 1; ComponentLink1URL: http://na.industrial.panasonic.com/sites/default/pidsa/files/crseries_datasheets_merged.pdf; ComponentLink1Description: http://na.industrial.panasonic.com/sites/default/pidsa/files/crseries_datasheets_merged.pdf; Supplier 1: Digi-Key; Supplier Part Number 1: 36-2996-ND; Stock 1: 11716; Pricing 1: 1=0,39000, 25=0,32720, 100=0,27070, 250=0,24944, 500=0,23438, 1000=0,21935, 2500=0,19929, 5000=0,18550 (USD); RoHS: Yes; Mount: Surface Mount,PCB; Case/Package: SMD/SMT; Color: Silver; Contact Material: Bronze; Contact Plating: Tin; Package Quantity: 100; Termination: SMD/SMT; Series: -; Number of Cells: 1; REACH SVHC: No SVHC; Lead Free: Lead Free; ComponentLink2URL: https://datasheet.ciiva.com/18491/2996-18491290.pdf?src-supplier=Digi-Key; ComponentLink2Description: https://datasheet.ciiva.com/18491/2996-18491290.pdf?src-supplier=Digi-Key
footprint LR44R_BATTERY_HOLDER (BATT RETAIN COIN 11.6MM 1CEL SMD)
pins: 1 +, 2 -

## LT1963AES8#PBF
designator IC?
2.1 to 20V 1.5A LDO; Manufacturer: STMicroelectronics; Manufacturer Part Number 1: LDL212PU50R; Part Description: Linear Voltage Regulator IC  1 Output  1.2A 6-DFN (3x3); Output Type: Fixed; Current - Output: 1.2A; Protection Features: Over Current, Over Temperature, Under Voltage Lockout (UVLO); PSRR: 87dB ~ 50dB (120Hz ~ 100kHz); Control Features: Enable; Voltage Dropout (Max): 0.6V @ 1.2A; Voltage - Output (Min/Fixed): 5V; Voltage - Input (Max): 18V; Output Configuration: Positive; Packaging: Cut Tape (CT); Operating Temperature: -40°C ~ 125°C (TJ); Part Status: Active; RoHS: RoHS Compliant; Category: Integrated Circuits (ICs); Supplier: Digi-Key; Package / Case: 6-VDFN Exposed Pad; Supplier Part Number: 497-16897-1-ND; Mounting Type: Surface Mount; Voltage - Output (Max): -; Supplier Device Package: 6-DFN (3x3)
footprint LDL212PU50R
footprint LDL212PU50R
pins: 1 OUT (power), 2 SENSE/ADJ (power), 3 GND (power), 4 NC (power), 5 SHDN (power), 6 GND (power), 7 GND (power), 8 IN (power)

## LT1965
designator IC?
Part Description: Linear Voltage Regulator IC Positive Adjustable 1 Output  1.1A 8-DFN (3x3); Manufacturer: Analog Devices / Linear Technology; Manufacturer Part Number 1: LT1965IDD#TRPBF; Output Voltage: 19.5V; Output Current: 1.1A; Dropout Voltage: 310mV; Number of Outputs: 1; Max Input Voltage: 20V; Min Input Voltage: 1.8V; Min Current Limit: 1.2A; Polarity: Positive; Operating Supply Current: 500uA; Power Supply Rejection Ratio (PSRR): 75dB; Min Output Voltage: 1.2V; ComponentLink1URL: http://www.linear.com/docs/25320?src-supplier=Digi-Key; ComponentLink1Description: http://www.linear.com/docs/25320?src-supplier=Digi-Key; Supplier 1: Digi-Key; Stock 1: 716; Pricing 1: 1 = 5,54000, 25 = 4,08000, 100 = 3,04260, 250 = 2,89048, 500 = 2,82530 (USD); RoHS: Yes; Case/Package: DFN; Number of Pins: 8; Min Operating Temperature: -40°C; Max Operating Temperature: 125°C; Package Quantity: 2500; Packaging: Tape and Reel; Number of Regulators: 1; Max Output Voltage: 19.5V; ComponentLink2URL: https://datasheet.ciiva.com/2058/25320-2058707.pdf?src-supplier=Digi-Key; ComponentLink2Description: https://datasheet.ciiva.com/2058/25320-2058707.pdf?src-supplier=Digi-Key; Supplier Part Number 1: LT1965IDD#TRPBFCT-ND
pins: 1 OUT (out), 2 OUT (out), 3 SENSE/ADJ (in), 4 GND, 5 GND, 6 ~{SHDN} (in), 7 IN (in), 8 IN (in), 9 GND/PAD

## LTC1560-1IS8
designator IC?
1MHz/500kHz Continuous Time, Low Noise, Lowpass Elliptic Filter; Manufacturer: Linear Technology; Manufacturer Part Number 1: LTC1560-1IS8; Supplier Part Number 1: 584-LTC1560-1IS8; Supplier 1: Mouser; Part Description: 1MHz/500kHz Continuous Time, Low Noise, Lowpass Elliptic Filter
footprint LTC1560-1_SO8
pins: 1 GND, 2 VIN (in), 3 GND, 4 -V (power), 5 0.5FC/~{FC} (in), 6 +V (power), 7 SHDN (in), 8 VOUT (out)

## LTC1564CG
designator IC?
10kHz to 150kHz Digitally Controlled Antialiasing Filter and 4-Bit P.G.A.; Manufacturer: Linear Technology; Manufacturer Part Number 1: LTC1564CG; Part Description: 10kHz to 150kHz Digitally Controlled Antialiasing Filter and 4-Bit P.G.A.; Supplier 1: Mouser; Supplier Part Number 1: 584-LTC1564CG#PBF
footprint LTC1564_SSOP16
pins: 1 OUT (out), 2 V- (power), 3 ~{EN} (in), 4 ~{CS}/HOLD (in), 5 F3 (in), 6 F2 (in), 7 F1 (in), 8 F0 (in), 9 G0 (in), 10 G1 (in), 11 G2 (in), 12 G3 (in), 13 ~{RST} (in), 14 V+ (power), 15 AGND (power), 16 IN (in)

## LTC2950IDDB
designator IC?, comment LTC2950IDDB-2#TRMPBF
Pushbutton On / Off  Controller, 8-pin SON (DDB-8), -40 to 85 degC, Pb-Free, Mini Tape and Reel; Manufacturer: Analog Devices / Linear Technology; Part Description: IC PUSH BUTTON ON/OFF CTRLR 8DFN; Input Capacitance: 1.5nF; Max Supply Voltage: 26.4V; Min Supply Voltage: 2.7V; Operating Supply Current: 6uA; Max Output Voltage: 10V; ComponentLink3Description: Package Specification; ComponentLink1URL: http://www.linear.com/; ComponentLink1Description: Manufacturer URL; ComponentLink2Description: Datasheet; ComponentLink2URL: http://cds.linear.com/docs/en/datasheet/295012fd.pdf; ComponentLink3URL: http://cds.linear.com/docs/en/packaging/DFN_8_05-08-1702.pdf; Supplier 1: Digi-Key; Supplier Part Number 1: LTC2950IDDB-2#TRMPBFCT-ND; Manufacturer Part Number 1: LTC2950IDDB-2#TRMPBF; Stock 1: 842; Pricing 1: 1=5,51000, 25=3,04000, 100=2,79300 (USD); RoHS: Yes; Case/Package: DFN; Number of Pins: 8; Min Operating Temperature: -40°C; Max Operating Temperature: 85°C; Package Quantity: 500; Min Input Voltage: 2.7V; Max Input Voltage: 26.4V; Packaging: Tape and Reel; Termination: SMD/SMT; Length: 3mm; REACH SVHC: No SVHC; ComponentLink4URL: https://datasheet.ciiva.com/22629/1605146-22629573.pdf?src-supplier=Farnell; ComponentLink4Description: https://datasheet.ciiva.com/22629/1605146-22629573.pdf?src-supplier=Farnell; ComponentLink5URL: https://datasheet.ciiva.com/1967/7377-1967318.pdf?src-supplier=Digi-Key; ComponentLink5Description: https://datasheet.ciiva.com/1967/7377-1967318.pdf?src-supplier=Digi-Key; ComponentLink6URL: https://datasheet.ciiva.com/1568/1605146-1568727.pdf?src-supplier=Farnell; ComponentLink6Description: https://datasheet.ciiva.com/1568/1605146-1568727.pdf?src-supplier=Farnell; ComponentLink7URL: https://datasheet.ciiva.com/1967/7377-1967319.pdf?src-supplier=Digi-Key; ComponentLink7Description: https://datasheet.ciiva.com/1967/7377-1967319.pdf?src-supplier=Digi-Key; ComponentLink8URL: https://datasheet.ciiva.com/1967/7377-1967320.pdf?src-supplier=Digi-Key; ComponentLink8Description: https://datasheet.ciiva.com/1967/7377-1967320.pdf?src-supplier=Digi-Key; ComponentLink9URL: https://datasheet.ciiva.com/1511/1605146-1511258.pdf?src-supplier=Element14; ComponentLink9Description: https://datasheet.ciiva.com/1511/1605146-1511258.pdf?src-supplier=Element14; ComponentLink10URL: https://datasheet.ciiva.com/1511/1605146-1511276.pdf?src-supplier=Element14; ComponentLink10Description: https://datasheet.ciiva.com/1511/1605146-1511276.pdf?src-supplier=Element14; ComponentLink11URL: https://datasheet.ciiva.com/1568/1605146-1568812.pdf?src-supplier=Farnell; ComponentLink11Description: https://datasheet.ciiva.com/1568/1605146-1568812.pdf?src-supplier=Farnell
footprint LTC2950IDDB-2#TRMPBF_8DFN_3x2 (SON, 8-Leads, Body 3x2mm, Pitch 0.5mm, Thermal Pad 2.2x0.61mm)
pins: 1 VIN (power) "Power Supply Input: 2.7V to 26.4V.", 2 ~{PB} (in) "Pushbutton Input. Connecting P\B\ to ground through a momentary switch provides on/off control via the EN/E\N\ pin. An internal 100k pull-up resistor connects to an internal 1.9V bias voltage. The rugged P\B\ input can be (See Datasheet)", 3 ONT (in) "Additional Adjustable Turn On Time Input. Placing an external capacitor to ground determines the additional time (beyond the internal default 32ms) the P\B\ pin must be held low before the enable output is asserted. Floating (See Datasheet)", 4 GND (power) "Device Ground.", 5 ~{INT} (oc) "Open Drain Interrupt Output. After a pushbutton turn-off event is detected, the LTC2950 interrupts the system (uP) by bringing the I\N\T\ pin low. Once the system finishes its power down and housekeeping tasks, it sets (See Datasheet)", 6 ~{EN} (oc) "Open Drain Enable Output. This pin is intended to enable system power. E\N\ is asserted low after a valid P\B\ turn-on event. E\N\ releases high if: a) K\I\L\L\ is not driven high (by uP) within 512ms of the initial valid (See Datasheet)", 7 OFFT (in) "Additional Adjustable Turn Off Time Input. A capacitor to ground determines the additional time (beyond the internal default 32ms) that the P\B\ pin must be held low before initiating a power down sequence (I\N\T\ falling). (See Datasheet)", 8 ~{KILL} (in) "K\I\L\L\ Input. Forcing K\I\L\L\ low releases the enable output. During system turn on, this pin is blanked by a 512ms internal timer to allow the system to pull K\I\L\L\ high. This pin has an accurate 0.6V threshold and can (See Datasheet)", PAD GND (power) "Device Ground."

## LTC2955CTS8-2#TRMPBF
designator IC?, comment LTC2955-2
Pushbutton On / Off Controller with Automatic Turn-On, 8-pin SOT23 (TS8-8), 0 to 70 degC, Pb-Free, Mini Tape and Reel; Manufacturer: Analog Devices / Linear Technology; Manufacturer Part Number 1: LTC2955CTS8-2#TRMPBF; Part Description: IC CTLR ON/OFF PUSHBUTT TSOT23-8; Min Supply Voltage: 1.6V; Max Supply Voltage: 36V; Operating Supply Current: 1.2uA; Threshold Voltage: 800mV; ComponentLink3Description: Package Specification; ComponentLink3URL: http://cds.linear.com/docs/en/packaging/SOT_8_05-08-1637.pdf; ComponentLink1URL: http://www.linear.com/; ComponentLink2URL: http://cds.linear.com/docs/en/datasheet/2955f.pdf; ComponentLink1Description: Manufacturer URL; ComponentLink2Description: Datasheet; Supplier 1: Digi-Key; Supplier Part Number 1: LTC2955CTS8-2#TRMPBFCT-ND; Stock 1: 1963; Pricing 1: 1=5,06000, 25=2,88000, 100=2,56690 (USD); RoHS: Yes; Case/Package: TSOT; Number of Pins: 8; Min Operating Temperature: 0°C; Max Operating Temperature: 70°C; Package Quantity: 500; Packaging: Tape and Reel; Nominal Supply Current: 1.2uA; REACH SVHC: No SVHC; Lead Free: Lead Free; ComponentLink4URL: https://datasheet.ciiva.com/1169/1563221-1169345.pdf?src-supplier=Element14; ComponentLink4Description: https://datasheet.ciiva.com/1169/1563221-1169345.pdf?src-supplier=Element14; ComponentLink5URL: https://datasheet.ciiva.com/1176/1563221-1176338.pdf?src-supplier=Newark; ComponentLink5Description: https://datasheet.ciiva.com/1176/1563221-1176338.pdf?src-supplier=Newark; ComponentLink6URL: https://datasheet.ciiva.com/1967/41161-1967526.pdf?src-supplier=Digi-Key; ComponentLink6Description: https://datasheet.ciiva.com/1967/41161-1967526.pdf?src-supplier=Digi-Key; ComponentLink7URL: https://datasheet.ciiva.com/1967/41161-1967527.pdf?src-supplier=Digi-Key; ComponentLink7Description: https://datasheet.ciiva.com/1967/41161-1967527.pdf?src-supplier=Digi-Key; ComponentLink8URL: https://datasheet.ciiva.com/1967/41161-1967528.pdf?src-supplier=Digi-Key; ComponentLink8Description: https://datasheet.ciiva.com/1967/41161-1967528.pdf?src-supplier=Digi-Key; ComponentLink9URL: https://datasheet.ciiva.com/7662/2955f-7662413.pdf?src-supplier=Element14; ComponentLink9Description: https://datasheet.ciiva.com/7662/2955f-7662413.pdf?src-supplier=Element14; ComponentLink10URL: https://datasheet.ciiva.com/1173/1563221-1173150.pdf?src-supplier=Farnell; ComponentLink10Description: https://datasheet.ciiva.com/1173/1563221-1173150.pdf?src-supplier=Farnell
footprint LTC2955CTS8-2#TRMPBF_TSOT23-8 (SOT23, 8-Leads, Body 2.9x1.75mm, Pitch 0.65mm)
pins: 1 ON (in) "Monitor Input. Connect this pin to an external resistive divider from the monitored voltage. This allows automatic system turn-on when the monitored voltage transitions high. For the DFN part, if the SEL pin is tied high, it (See Datasheet)", 2 ~{KILL} (in) "Kill Input. A low at K\I\L\L\ releases the enable output (EN/E\N\). This pin can be driven by the microprocessor or it can be used as a voltage monitor input. Tie to the system power supply or an external voltage of 1.2V~5V (See Datasheet)", 3 TMR (in) "Timer Pin. A capacitor to ground determines the additional time (5.2 seconds/uF) beyond the default 64ms that the pushbutton must be held low before immediately releasing the EN/E\N\ and I\N\T\ outputs. The turn-off debounce (See Datasheet)", 4 GND (power) "Device Ground.", 5 ~{PB} (in) "Pushbutton Input. This is an active low input with a 900k pull-up to an internal LDO. Connect one terminal of the pushbutton to this pin and connect the other terminal of the pushbutton to GND. The pin may be left open if (See Datasheet)", 6 VIN (power) "Power Supply Input. For > 20V applications, connect VIN to the power source through a 1k resistor and bypass VIN to GND with a 10nF low ESR capacitor.", 7 ~{EN} (oc) "Inverted Enable Output (LTC2955-2). E\N\ is an active low output to control the turn-on/off of the system power. It may drive a voltage regulator's active low enable input, or it may drive the gate of a P-channel MOSFET(See Datasheet)", 8 ~{INT} (oc) "Open Drain Interrupt Output. Connect this pin to the interrupt input of the system with a pull-up resistor to the system supply. The LTC2955 asserts the I\N\T\ pin low when it receives the turn-off command from the (See Datasheet)"

## LTC2955IDDB-1#TRMPBF
designator IC?
Pushbutton On / Off Controller with Automatic Turn-On, 10-pin SON (DDB10), -40 to 85 degC, Pb-Free, Mini Tape and Reel; Part Description: IC CTLR ON/OFF PUSHBUTTON 10-DFN; Manufacturer: Analog Devices / Linear Technology; Min Supply Voltage: 1.6V; Max Supply Voltage: 36V; Operating Supply Current: 1.2uA; Threshold Voltage: 800mV; ComponentLink3Description: Package Specification; ComponentLink3URL: http://cds.linear.com/docs/en/packaging/DFN_10_05-08-1722.pdf; ComponentLink2URL: http://cds.linear.com/docs/en/datasheet/2955f.pdf; ComponentLink2Description: Datasheet; ComponentLink1Description: Manufacturer URL; ComponentLink1URL: http://www.linear.com/; Supplier 1: Digi-Key; Supplier Part Number 1: LTC2955IDDB-1#TRMPBFCT-ND; Manufacturer Part Number 1: LTC2955IDDB-1#TRMPBF; Stock 1: 8955; Pricing 1: 1=6,06000, 25=3,44000, 100=3,07230 (USD); RoHS: Yes; Case/Package: DFN; Number of Pins: 10; Min Operating Temperature: -40°C; Max Operating Temperature: 85°C; Package Quantity: 500; Packaging: Tape and Reel; Nominal Supply Current: 1.2uA; Length: 3mm; REACH SVHC: No SVHC; Lead Free: Lead Free; ComponentLink4URL: https://datasheet.ciiva.com/1169/1563221-1169346.pdf?src-supplier=Element14; ComponentLink4Description: https://datasheet.ciiva.com/1169/1563221-1169346.pdf?src-supplier=Element14; ComponentLink5URL: https://datasheet.ciiva.com/1176/1563221-1176339.pdf?src-supplier=Newark; ComponentLink5Description: https://datasheet.ciiva.com/1176/1563221-1176339.pdf?src-supplier=Newark; ComponentLink6URL: https://datasheet.ciiva.com/22621/1563221-22621578.pdf?src-supplier=Element14; ComponentLink6Description: https://datasheet.ciiva.com/22621/1563221-22621578.pdf?src-supplier=Element14; ComponentLink7URL: https://datasheet.ciiva.com/1967/41161-1967533.pdf?src-supplier=Digi-Key; ComponentLink7Description: https://datasheet.ciiva.com/1967/41161-1967533.pdf?src-supplier=Digi-Key; ComponentLink8URL: https://datasheet.ciiva.com/1173/1563221-1173151.pdf?src-supplier=Farnell; ComponentLink8Description: https://datasheet.ciiva.com/1173/1563221-1173151.pdf?src-supplier=Farnell; ComponentLink9URL: https://datasheet.ciiva.com/1967/41161-1967535.pdf?src-supplier=Digi-Key; ComponentLink9Description: https://datasheet.ciiva.com/1967/41161-1967535.pdf?src-supplier=Digi-Key; ComponentLink10URL: https://datasheet.ciiva.com/48695/001256199-da-01-en-ic-ctlr-ltc2955iddb-1-trmpbf-dfn-10-ltc-48695846.pdf?src-supplier=Conrad; ComponentLink10Description: https://datasheet.ciiva.com/48695/001256199-da-01-en-ic-ctlr-ltc2955iddb-1-trmpbf-dfn-10-ltc-48695846.pdf?src-supplier=Conrad
footprint LTC2955IDDB-1#TRMPBF_10-DFN (SON, 10-Leads, Body 3x2mm, Pitch 0.5mm, Thermal Pad 2.39x0.64mm)
pins: 1 ~{INT} (oc) "Open Drain Interrupt Output. Connect this pin to the interrupt input of the system with a pull-up resistor to the system supply. The LTC2955 asserts the I\N\T\ pin low when it receives the turn-off command from the (See Datasheet)", 2 PGD (out) "ON Status Output. A high on this pin indicates that the voltage at the ON pin is above the input threshold of 0.8V. This pin can be used as a system input to inform the system whether the turn-on was triggered by the ON pin (See Datasheet)", 3 EN (oc) "Enable Output (LTC2955-1). EN is an active high output to control the turn-on/off of the system power. Connect this pin to the RUN or S\H\U\T\D\O\W\N\ pin of the voltage regulator. The LTC2955 asserts EN high when the (See Datasheet)", 4 VIN (power) "Power Supply Input. For > 20V applications, connect VIN to the power source through a 1k resistor and bypass VIN to GND with a 10nF low ESR capacitor.", 5 ~{PB} (in) "Pushbutton Input. This is an active low input with a 900k pull-up to an internal LDO. Connect one terminal of the pushbutton to this pin and connect the other terminal of the pushbutton to GND. The pin may be left open if (See Datasheet)", 6 GND (power) "Device Ground.", 7 SEL (in) "Mode Select Input. Connect SEL to GND to block the ON pin falling edge from activating system turn-off. Connect SEL to VIN to allow both the ON pin rising and falling edges to activate system turn-on and turn-off (See Datasheet)", 8 TMR (in) "Timer Pin. A capacitor to ground determines the additional time (5.2 seconds/uF) beyond the default 64ms that the pushbutton must be held low before immediately releasing the EN/E\N\ and I\N\T\ outputs. The turn-off debounce (See Datasheet)", 9 ~{KILL} (in) "Kill Input. A low at K\I\L\L\ releases the enable output (EN/E\N\). This pin can be driven by the microprocessor or it can be used as a voltage monitor input. Tie to the system power supply or an external voltage of 1.2V~5V (See Datasheet)", 10 ON (in) "Monitor Input. Connect this pin to an external resistive divider from the monitored voltage. This allows automatic system turn-on when the monitored voltage transitions high. For the DFN part, if the SEL pin is tied high, it (See Datasheet)", 11 EP (power) "Exposed pad. Leave open or connect to device ground."

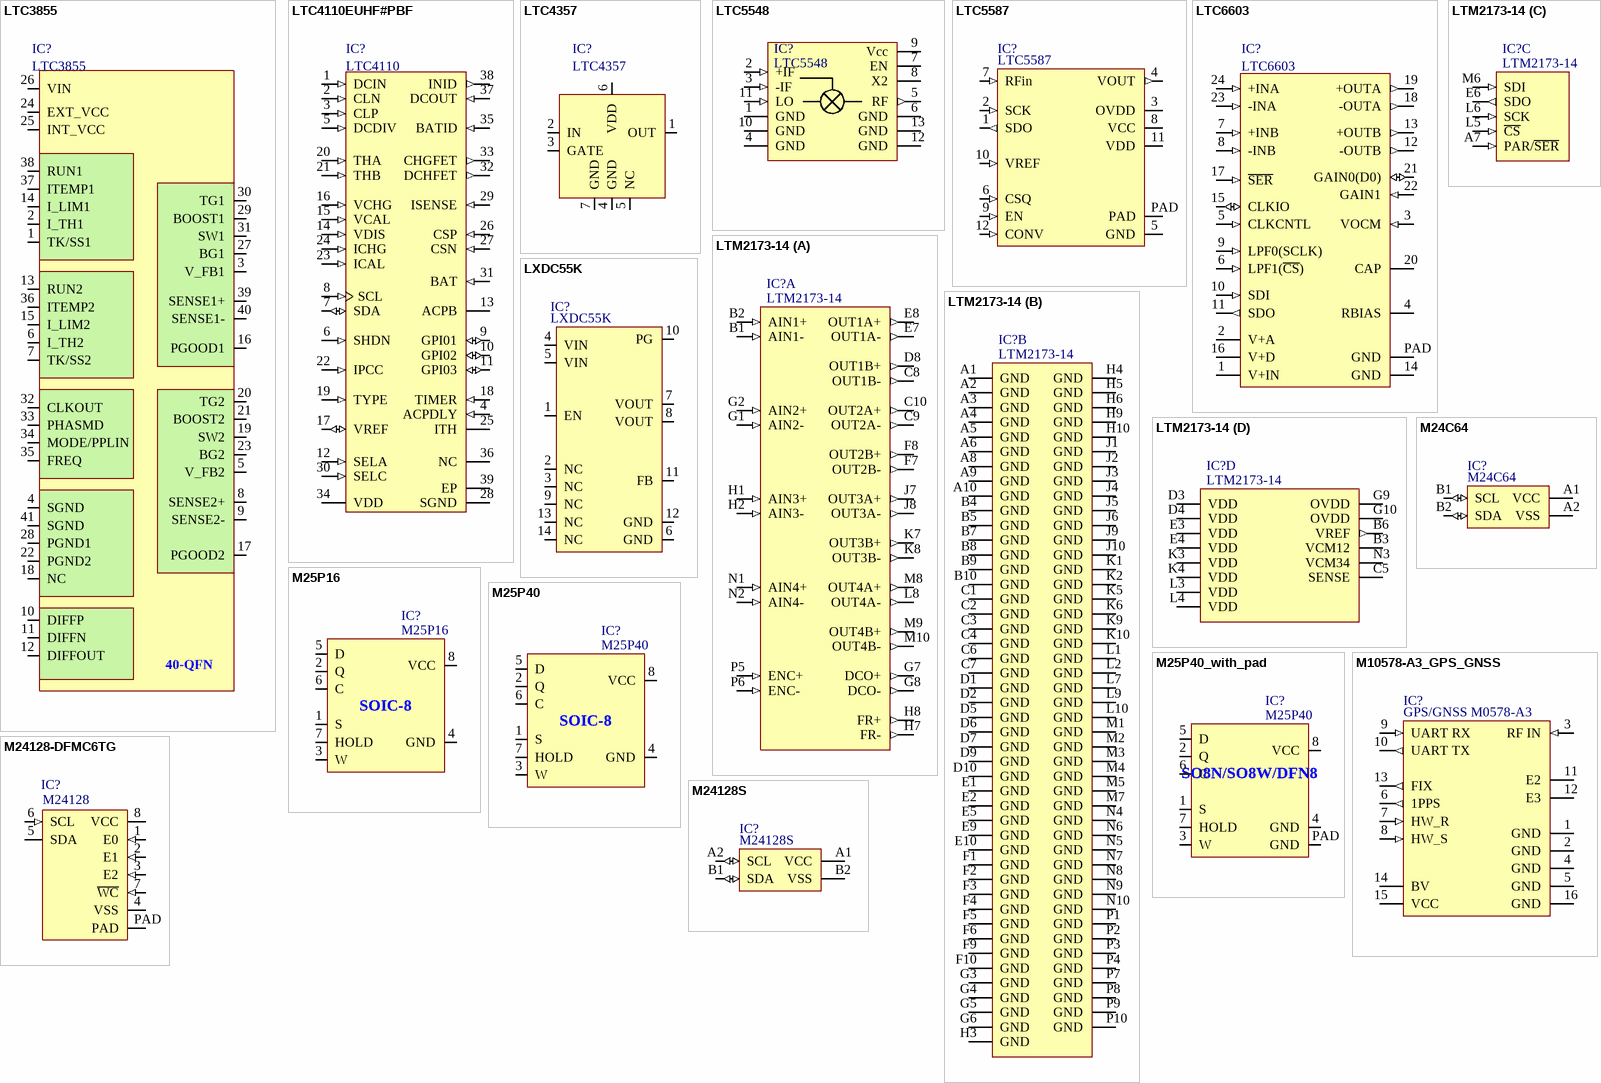
[diagram p59: symbols LTC3855 to M24128S]

## LTC3855
designator IC?
Manufacturer: Linear Technology; Number of Outputs: 2; Frequency - Max: 850kHz; Voltage - Supply: 4.5 V ~ 38 V; Duty Cycle: 95%; Supplier 1: Digi-Key; Package / Case: 40-WFQFN Exposed Pad; Operating Temperature: -40°C ~ 85°C; Category: Integrated Circuits (ICs); Supplier Part Number 1: LTC3855EUJ#TRPBF-ND
footprint LTC3855 (QFN, 40-Leads, Body 6,00x6,00mm, Pitch 0,50mm, Thermal Pad 4,40x4,40mm, IPC Medium Density)
pins: 1 TK/SS1, 2 I_TH1, 3 V_FB1, 4 SGND, 5 V_FB2, 6 I_TH2, 7 TK/SS2, 8 SENSE2+, 9 SENSE2-, 10 DIFFP, 11 DIFFN, 12 DIFFOUT, 13 RUN2, 14 I_LIM1, 15 I_LIM2, 16 PGOOD1, 17 PGOOD2, 18 NC, 19 SW2, 20 TG2, 21 BOOST2, 22 PGND2, 23 BG2, 24 EXT_VCC, 25 INT_VCC, 26 VIN, 27 BG1, 28 PGND1, 29 BOOST1, 30 TG1, 31 SW1, 32 CLKOUT, 33 PHASMD, 34 MODE/PPLIN, 35 FREQ, 36 ITEMP2, 37 ITEMP1, 38 RUN1, 39 SENSE1+, 40 SENSE1-, 41 SGND
text: 40-QFN